# EAGLE library part DG200BDJ (library Vishay_By_element14_Batch_1)
Monolithic Dual SPST CMOS Analog Switch
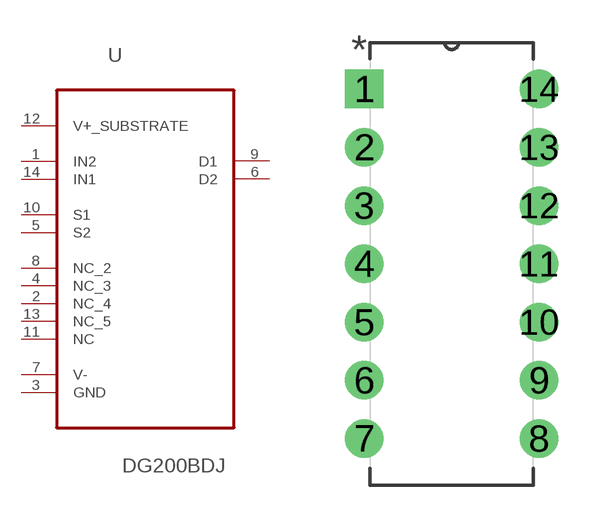
[diagram p1: symbol with the pads of DIP254P762X508-14; footprint DIP254P762X508-14]

Designator prefix U

## DG200BDJ (MPN: DG200BDJ; OC_FARNELL: 1651898; OC_NEWARK: 45C9676; PACKAGE: DIP-14; SUPPLIER: VISHAY SILICONIX)  [DIP254P762X508-14]
1  IN2  in
2  NC_4  nc
3  GND  pas
4  NC_3  nc
5  S2  in
6  D2  out
7  V-  pwr
8  NC_2  nc
9  D1  out
10  S1  in
11  NC  nc
12  V+_SUBSTRATE  pwr
13  NC_5  nc
14  IN1  in

## Footprint DIP254P762X508-14 (pad centres in mm)
drill 1.118 square: 1 -7.62,15.24
drill 1.118: 2 -7.62,12.7; 3 -7.62,10.16; 4 -7.62,7.62; 5 -7.62,5.08; 6 -7.62,2.54; 7 -7.62,0; 8 0,0; 9 0,2.54; 10 0,5.08; 11 0,7.62; 12 0,10.16; 13 0,12.7; 14 0,15.24